# Altium footprint library lcd panel.PcbLib: 1 footprints
Each footprint in its own frame and in the unit in brackets; x right, y up, seen from the top. Pads: shape width x height; smd on the part's side, far side on the other; paste and mask are expansions set on the pad; w line width, h text height; cw(c..) or ccw(c..) is an arc to the next point about the centre after c.
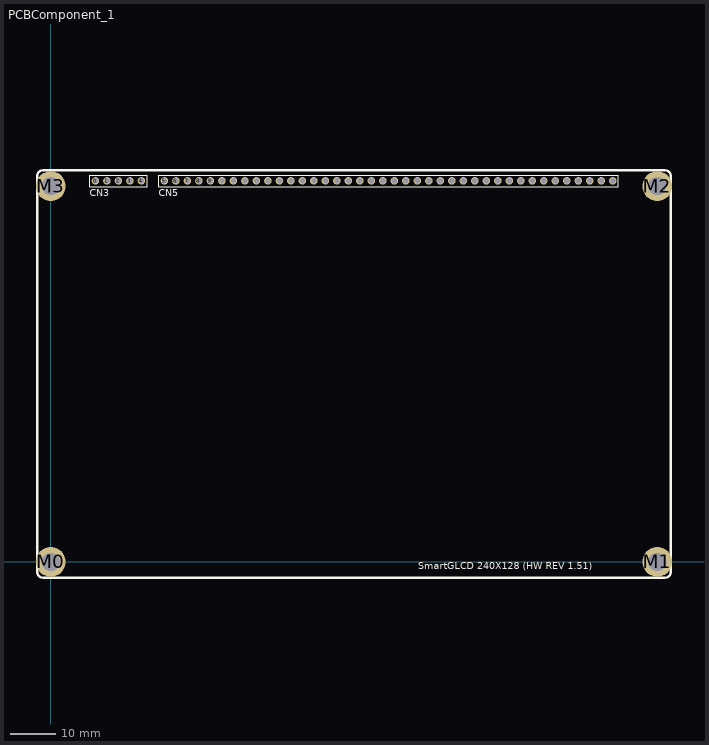
[diagram p0: the footprint, top view; thin cyan lines are the x and y axes]

## PCBComponent_1 [mil]
pads (49):
  round 65 hole 45: 0(388.58,3314.57) 1(488.58,3314.57) 2(588.58,3314.57) 3(688.58,3314.57) 4(788.58,3314.57) 5(988.58,3314.57) 6(1088.58,3314.57) 7(1188.58,3314.57) 8(1288.58,3314.57) 9(1388.58,3314.57) 10(1488.58,3314.57) 11(1588.58,3314.57) 12(1688.58,3314.57) 13(1788.58,3314.57) 14(1888.58,3314.57) 15(1988.58,3314.57) 16(2088.58,3314.57) 17(2188.58,3314.57) 18(2288.58,3314.57) 19(2388.58,3314.57) 20(2488.58,3314.57) 21(2588.58,3314.57) 22(2688.58,3314.57) 23(2788.58,3314.57) 24(2888.58,3314.57) 25(2988.58,3314.57) 26(3088.58,3314.57) 27(3188.58,3314.57) 28(3288.58,3314.57) 29(3388.58,3314.57) 30(3488.58,3314.57) 31(3588.58,3314.57) 32(3688.58,3314.57) 33(3788.58,3314.57) 34(3888.58,3314.57) 35(3988.58,3314.57) 36(4088.58,3314.57) 37(4188.58,3314.57) 38(4288.58,3314.57) 39(4388.58,3314.57) 40(4488.58,3314.57) 41(4588.58,3314.57) 42(4688.58,3314.57) 43(4788.58,3314.57) 44(4888.58,3314.57)
  round 260 hole 157: M0(0,0) M1(5275.59,0) M2(5275.59,3268) M3(0,3268)
Top Overlay:
  lines w10: 338.58,3264.57 338.58,3364.57 838.58,3364.57 838.58,3264.57 338.58,3264.57 ; 938.58,3264.57 938.58,3364.57 4938.58,3364.57 4938.58,3264.57 938.58,3264.57
  lines w20: -118.11,-87.5 ccw(c-68.11,-87.5) -68.11,-137.5 22.5,-137.5 5307.5,-137.5 5343.7,-137.5 ccw(c5343.7,-87.5) 5393.7,-87.5 5393.7,-51.3 5393.7,3341.3 5393.7,3355.5 ccw(c5343.7,3355.5) 5343.7,3405.5 5329.5,3405.5 -54.5,3405.5 -68.11,3405.5 ccw(c-68.11,3355.5) -118.11,3355.5 -118.11,3341.89 -118.11,3.11 -118.11,-87.5
  text "CN5" at 940,3180 h60
  text "CN3" at 340,3180 h60
  text "SmartGLCD 240X128 (HW REV 1.51)" at 3195,-65 h60